# Altium schematic symbol library SCH - ARM Cortex - NXP K32L2A31VLL1A.SchLib: 1 symbol
Pins are listed as number, name and electrical type; pins without a type are passive.

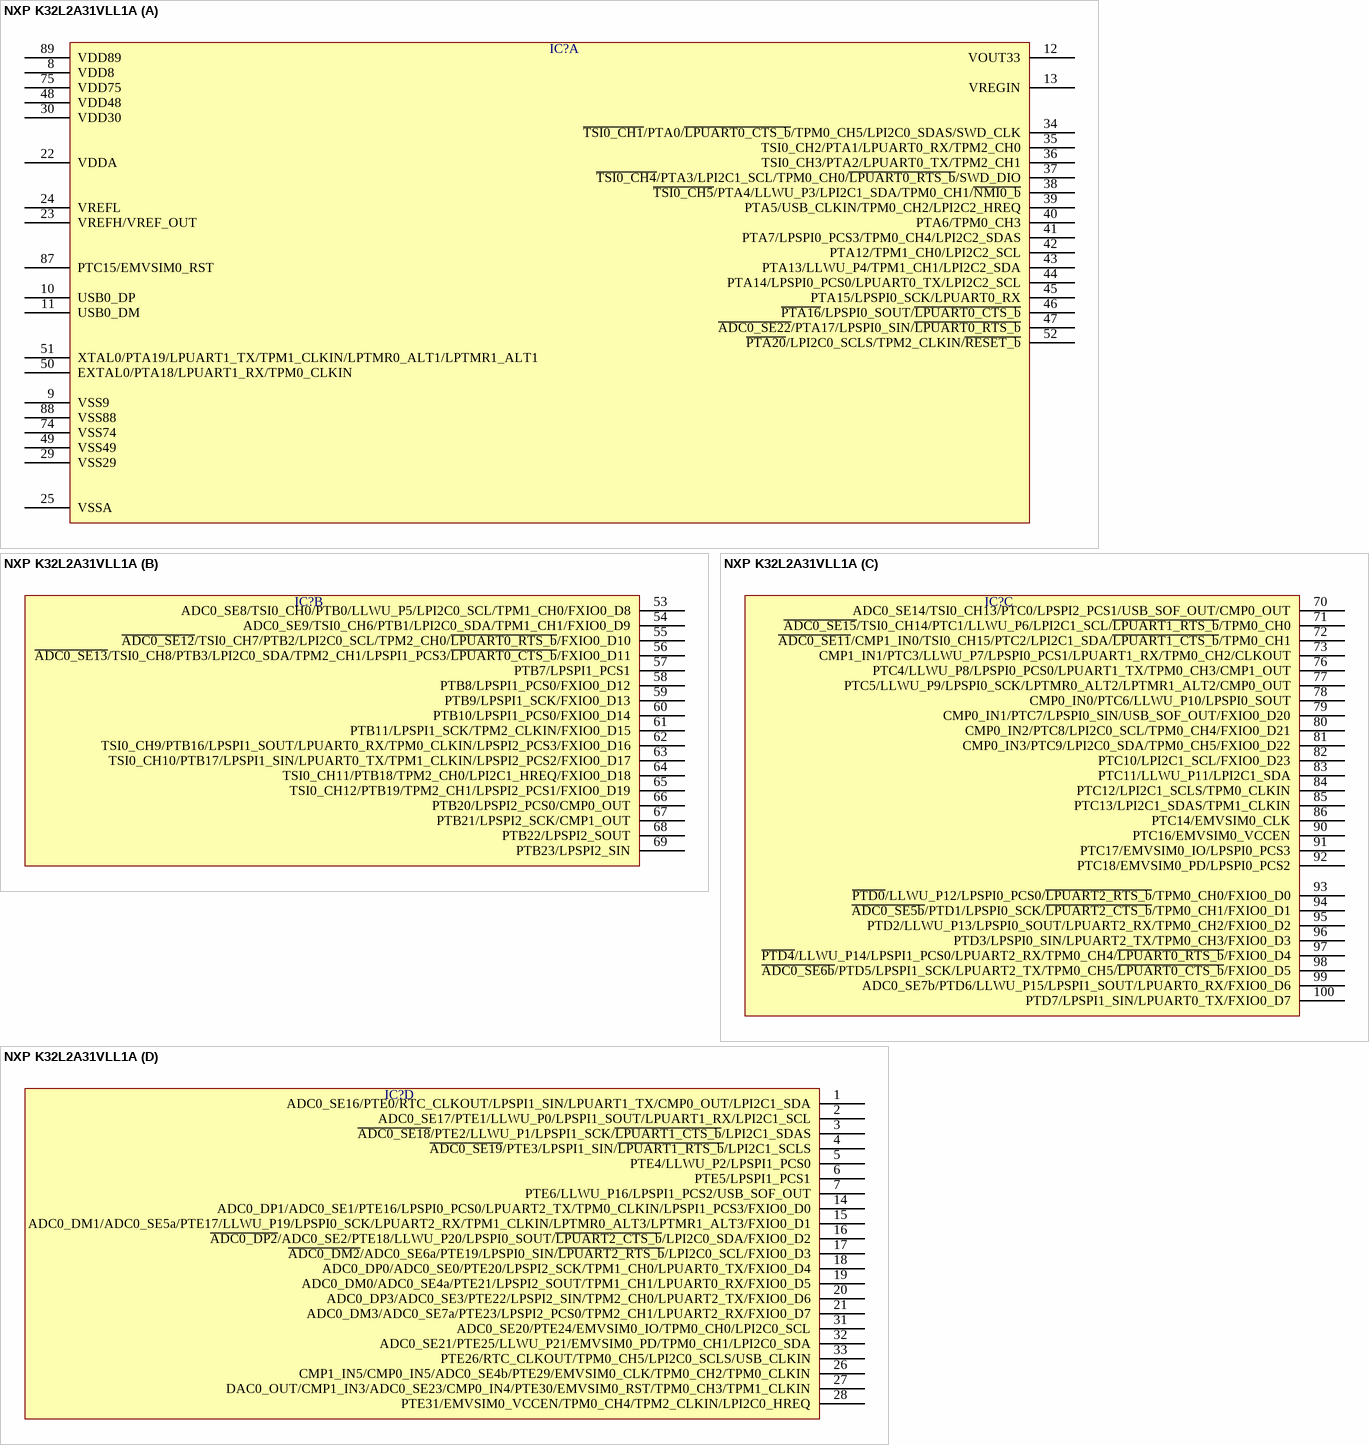
[diagram p0: symbol NXP K32L2A31VLL1A]

## NXP K32L2A31VLL1A
designator IC?  (value not drawn)
part A pins: 8 VDD8, 9 VSS9, 10 USB0_DP, 11 USB0_DM, 12 VOUT33, 13 VREGIN, 22 VDDA, 23 VREFH/VREF_OUT, 24 VREFL, 25 VSSA, 29 VSS29, 30 VDD30, 34 ~{TSI0_CH1}/PTA0/~{LPUART0_CTS_b}/TPM0_CH5/LPI2C0_SDAS/SWD_CLK, 35 TSI0_CH2/PTA1/LPUART0_RX/TPM2_CH0, 36 TSI0_CH3/PTA2/LPUART0_TX/TPM2_CH1, 37 ~{TSI0_CH4}/PTA3/LPI2C1_SCL/TPM0_CH0/~{LPUART0_RTS_b}/SWD_DIO, 38 ~{TSI0_CH5}/PTA4/LLWU_P3/LPI2C1_SDA/TPM0_CH1/~{NMI0_b}, 39 PTA5/USB_CLKIN/TPM0_CH2/LPI2C2_HREQ, 40 PTA6/TPM0_CH3, 41 PTA7/LPSPI0_PCS3/TPM0_CH4/LPI2C2_SDAS, 42 PTA12/TPM1_CH0/LPI2C2_SCL, 43 PTA13/LLWU_P4/TPM1_CH1/LPI2C2_SDA, 44 PTA14/LPSPI0_PCS0/LPUART0_TX/LPI2C2_SCL, 45 PTA15/LPSPI0_SCK/LPUART0_RX, 46 ~{PTA16}/LPSPI0_SOUT/~{LPUART0_CTS_b}, 47 ~{ADC0_SE22}/PTA17/LPSPI0_SIN/~{LPUART0_RTS_b}, 48 VDD48, 49 VSS49, 50 EXTAL0/PTA18/LPUART1_RX/TPM0_CLKIN, 51 XTAL0/PTA19/LPUART1_TX/TPM1_CLKIN/LPTMR0_ALT1/LPTMR1_ALT1, 52 ~{PTA20}/LPI2C0_SCLS/TPM2_CLKIN/~{RESET_b}, 74 VSS74, 75 VDD75, 87 PTC15/EMVSIM0_RST, 88 VSS88, 89 VDD89
part B pins: 53 ADC0_SE8/TSI0_CH0/PTB0/LLWU_P5/LPI2C0_SCL/TPM1_CH0/FXIO0_D8, 54 ADC0_SE9/TSI0_CH6/PTB1/LPI2C0_SDA/TPM1_CH1/FXIO0_D9, 55 ~{ADC0_SE12}/TSI0_CH7/PTB2/LPI2C0_SCL/TPM2_CH0/~{LPUART0_RTS_b}/FXIO0_D10, 56 ~{ADC0_SE13}/TSI0_CH8/PTB3/LPI2C0_SDA/TPM2_CH1/LPSPI1_PCS3/~{LPUART0_CTS_b}/FXIO0_D11, 57 PTB7/LPSPI1_PCS1, 58 PTB8/LPSPI1_PCS0/FXIO0_D12, 59 PTB9/LPSPI1_SCK/FXIO0_D13, 60 PTB10/LPSPI1_PCS0/FXIO0_D14, 61 PTB11/LPSPI1_SCK/TPM2_CLKIN/FXIO0_D15, 62 TSI0_CH9/PTB16/LPSPI1_SOUT/LPUART0_RX/TPM0_CLKIN/LPSPI2_PCS3/FXIO0_D16, 63 TSI0_CH10/PTB17/LPSPI1_SIN/LPUART0_TX/TPM1_CLKIN/LPSPI2_PCS2/FXIO0_D17, 64 TSI0_CH11/PTB18/TPM2_CH0/LPI2C1_HREQ/FXIO0_D18, 65 TSI0_CH12/PTB19/TPM2_CH1/LPSPI2_PCS1/FXIO0_D19, 66 PTB20/LPSPI2_PCS0/CMP0_OUT, 67 PTB21/LPSPI2_SCK/CMP1_OUT, 68 PTB22/LPSPI2_SOUT, 69 PTB23/LPSPI2_SIN
part C pins: 70 ADC0_SE14/TSI0_CH13/PTC0/LPSPI2_PCS1/USB_SOF_OUT/CMP0_OUT, 71 ~{ADC0_SE15}/TSI0_CH14/PTC1/LLWU_P6/LPI2C1_SCL/~{LPUART1_RTS_b}/TPM0_CH0, 72 ~{ADC0_SE11}/CMP1_IN0/TSI0_CH15/PTC2/LPI2C1_SDA/~{LPUART1_CTS_b}/TPM0_CH1, 73 CMP1_IN1/PTC3/LLWU_P7/LPSPI0_PCS1/LPUART1_RX/TPM0_CH2/CLKOUT, 76 PTC4/LLWU_P8/LPSPI0_PCS0/LPUART1_TX/TPM0_CH3/CMP1_OUT, 77 PTC5/LLWU_P9/LPSPI0_SCK/LPTMR0_ALT2/LPTMR1_ALT2/CMP0_OUT, 78 CMP0_IN0/PTC6/LLWU_P10/LPSPI0_SOUT, 79 CMP0_IN1/PTC7/LPSPI0_SIN/USB_SOF_OUT/FXIO0_D20, 80 CMP0_IN2/PTC8/LPI2C0_SCL/TPM0_CH4/FXIO0_D21, 81 CMP0_IN3/PTC9/LPI2C0_SDA/TPM0_CH5/FXIO0_D22, 82 PTC10/LPI2C1_SCL/FXIO0_D23, 83 PTC11/LLWU_P11/LPI2C1_SDA, 84 PTC12/LPI2C1_SCLS/TPM0_CLKIN, 85 PTC13/LPI2C1_SDAS/TPM1_CLKIN, 86 PTC14/EMVSIM0_CLK, 90 PTC16/EMVSIM0_VCCEN, 91 PTC17/EMVSIM0_IO/LPSPI0_PCS3, 92 PTC18/EMVSIM0_PD/LPSPI0_PCS2, 93 ~{PTD0}/LLWU_P12/LPSPI0_PCS0/~{LPUART2_RTS_b}/TPM0_CH0/FXIO0_D0, 94 ~{ADC0_SE5b}/PTD1/LPSPI0_SCK/~{LPUART2_CTS_b}/TPM0_CH1/FXIO0_D1, 95 PTD2/LLWU_P13/LPSPI0_SOUT/LPUART2_RX/TPM0_CH2/FXIO0_D2, 96 PTD3/LPSPI0_SIN/LPUART2_TX/TPM0_CH3/FXIO0_D3, 97 ~{PTD4}/LLWU_P14/LPSPI1_PCS0/LPUART2_RX/TPM0_CH4/~{LPUART0_RTS_b}/FXIO0_D4, 98 ~{ADC0_SE6b}/PTD5/LPSPI1_SCK/LPUART2_TX/TPM0_CH5/~{LPUART0_CTS_b}/FXIO0_D5, 99 ADC0_SE7b/PTD6/LLWU_P15/LPSPI1_SOUT/LPUART0_RX/FXIO0_D6, 100 PTD7/LPSPI1_SIN/LPUART0_TX/FXIO0_D7
part D pins: 1 ADC0_SE16/PTE0/RTC_CLKOUT/LPSPI1_SIN/LPUART1_TX/CMP0_OUT/LPI2C1_SDA, 2 ADC0_SE17/PTE1/LLWU_P0/LPSPI1_SOUT/LPUART1_RX/LPI2C1_SCL, 3 ~{ADC0_SE18}/PTE2/LLWU_P1/LPSPI1_SCK/~{LPUART1_CTS_b}/LPI2C1_SDAS, 4 ~{ADC0_SE19}/PTE3/LPSPI1_SIN/~{LPUART1_RTS_b}/LPI2C1_SCLS, 5 PTE4/LLWU_P2/LPSPI1_PCS0, 6 PTE5/LPSPI1_PCS1, 7 PTE6/LLWU_P16/LPSPI1_PCS2/USB_SOF_OUT, 14 ADC0_DP1/ADC0_SE1/PTE16/LPSPI0_PCS0/LPUART2_TX/TPM0_CLKIN/LPSPI1_PCS3/FXIO0_D0, 15 ADC0_DM1/ADC0_SE5a/PTE17/LLWU_P19/LPSPI0_SCK/LPUART2_RX/TPM1_CLKIN/LPTMR0_ALT3/LPTMR1_ALT3/FXIO0_D1, 16 ~{ADC0_DP2}/ADC0_SE2/PTE18/LLWU_P20/LPSPI0_SOUT/~{LPUART2_CTS_b}/LPI2C0_SDA/FXIO0_D2, 17 ~{ADC0_DM2}/ADC0_SE6a/PTE19/LPSPI0_SIN/~{LPUART2_RTS_b}/LPI2C0_SCL/FXIO0_D3, 18 ADC0_DP0/ADC0_SE0/PTE20/LPSPI2_SCK/TPM1_CH0/LPUART0_TX/FXIO0_D4, 19 ADC0_DM0/ADC0_SE4a/PTE21/LPSPI2_SOUT/TPM1_CH1/LPUART0_RX/FXIO0_D5, 20 ADC0_DP3/ADC0_SE3/PTE22/LPSPI2_SIN/TPM2_CH0/LPUART2_TX/FXIO0_D6, 21 ADC0_DM3/ADC0_SE7a/PTE23/LPSPI2_PCS0/TPM2_CH1/LPUART2_RX/FXIO0_D7, 26 CMP1_IN5/CMP0_IN5/ADC0_SE4b/PTE29/EMVSIM0_CLK/TPM0_CH2/TPM0_CLKIN, 27 DAC0_OUT/CMP1_IN3/ADC0_SE23/CMP0_IN4/PTE30/EMVSIM0_RST/TPM0_CH3/TPM1_CLKIN, 28 PTE31/EMVSIM0_VCCEN/TPM0_CH4/TPM2_CLKIN/LPI2C0_HREQ, 31 ADC0_SE20/PTE24/EMVSIM0_IO/TPM0_CH0/LPI2C0_SCL, 32 ADC0_SE21/PTE25/LLWU_P21/EMVSIM0_PD/TPM0_CH1/LPI2C0_SDA, 33 PTE26/RTC_CLKOUT/TPM0_CH5/LPI2C0_SCLS/USB_CLKIN